# Altium schematic symbol library 665 3xx 124 022.SchLib: 7 symbols
Pins are listed as number, name and electrical type; pins without a type are passive.

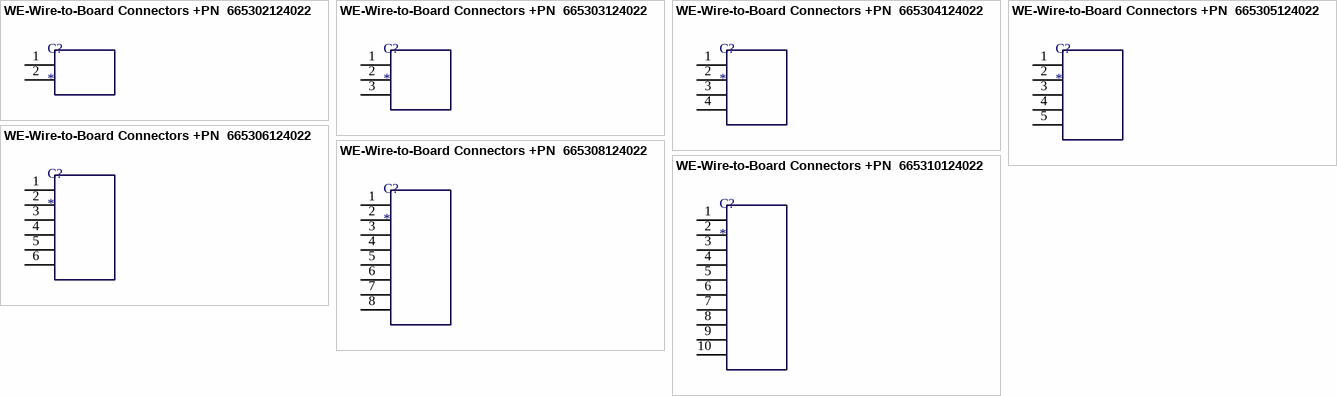
[diagram p0: symbols WE-Wire-to-Board Connectors +PN  665302124022 to WE-Wire-to-Board Connectors +PN  665310124022]

## WE-Wire-to-Board Connectors +PN  665302124022
designator C?
ConWTB Wire-to-Board Connectors 1.00 mm; Manufacturer: WЁ№rth Elektronik eiSos GmbH; partNo: 665302124022; ComponentLink1 Description: Manufacturer; ComponentLink2 Description: Datasheet; ComponentLink1URL: http://www.we-online.de; ComponentLink2URL: http://katalog.we-online.de/em/datasheet/6653xx124022.pdf; Created by: Karrer Zheng; Created Date: 10/9/2014
footprint 665302124022
pins: 1  , 2  

## WE-Wire-to-Board Connectors +PN  665303124022
designator C?
ConWTB Wire-to-Board Connectors 1.00 mm; Manufacturer: WЁ№rth Elektronik eiSos GmbH; partNo: 665303124022; ComponentLink1 Description: Manufacturer; ComponentLink2 Description: Datasheet; ComponentLink1URL: http://www.we-online.de; ComponentLink2URL: http://katalog.we-online.de/em/datasheet/6653xx124022.pdf; Created by: Karrer Zheng; Created Date: 10/9/2014
footprint 665303124022
pins: 1  , 2  , 3  

## WE-Wire-to-Board Connectors +PN  665304124022
designator C?
ConWTB Wire-to-Board Connectors 1.00 mm; Manufacturer: WЁ№rth Elektronik eiSos GmbH; partNo: 665304124022; ComponentLink1 Description: Manufacturer; ComponentLink2 Description: Datasheet; ComponentLink1URL: http://www.we-online.de; ComponentLink2URL: http://katalog.we-online.de/em/datasheet/6653xx124022.pdf; Created by: Karrer Zheng; Created Date: 10/9/2014
footprint 665304124022
pins: 1  , 2  , 3  , 4  

## WE-Wire-to-Board Connectors +PN  665305124022
designator C?
ConWTB Wire-to-Board Connectors 1.00 mm; Manufacturer: WЁ№rth Elektronik eiSos GmbH; partNo: 665305124022; ComponentLink1 Description: Manufacturer; ComponentLink2 Description: Datasheet; ComponentLink1URL: http://www.we-online.de; ComponentLink2URL: http://katalog.we-online.de/em/datasheet/6653xx124022.pdf; Created by: Karrer Zheng; Created Date: 10/9/2014
footprint 665305124022
pins: 1  , 2  , 3  , 4  , 5  

## WE-Wire-to-Board Connectors +PN  665306124022
designator C?
ConWTB Wire-to-Board Connectors 1.00 mm; Manufacturer: WЁ№rth Elektronik eiSos GmbH; partNo: 665306124022; ComponentLink1 Description: Manufacturer; ComponentLink2 Description: Datasheet; ComponentLink1URL: http://www.we-online.de; ComponentLink2URL: http://katalog.we-online.de/em/datasheet/6653xx124022.pdf; Created by: Karrer Zheng; Created Date: 10/9/2014
footprint 665306124022
pins: 1  , 2  , 3  , 4  , 5  , 6  

## WE-Wire-to-Board Connectors +PN  665308124022
designator C?
ConWTB Wire-to-Board Connectors 1.00 mm; Manufacturer: WЁ№rth Elektronik eiSos GmbH; partNo: 665308124022; ComponentLink1 Description: Manufacturer; ComponentLink2 Description: Datasheet; ComponentLink1URL: http://www.we-online.de; ComponentLink2URL: http://katalog.we-online.de/em/datasheet/6653xx124022.pdf; Created by: Karrer Zheng; Created Date: 10/9/2014
footprint 665308124022
pins: 1  , 2  , 3  , 4  , 5  , 6  , 7  , 8  

## WE-Wire-to-Board Connectors +PN  665310124022
designator C?
ConWTB Wire-to-Board Connectors 1.00 mm; Manufacturer: WЁ№rth Elektronik eiSos GmbH; partNo: 665310124022; ComponentLink1 Description: Manufacturer; ComponentLink2 Description: Datasheet; ComponentLink1URL: http://www.we-online.de; ComponentLink2URL: http://katalog.we-online.de/em/datasheet/6653xx124022.pdf; Created by: Karrer Zheng; Created Date: 10/9/2014
footprint 665310124022
pins: 1  , 2  , 3  , 4  , 5  , 6  , 7  , 8  , 9  , 10  